# EAGLE library part IR2132SPBF (library International_Rectifier_By_element14_Batch_1)
3-PHASE BRIDGE DRIVER
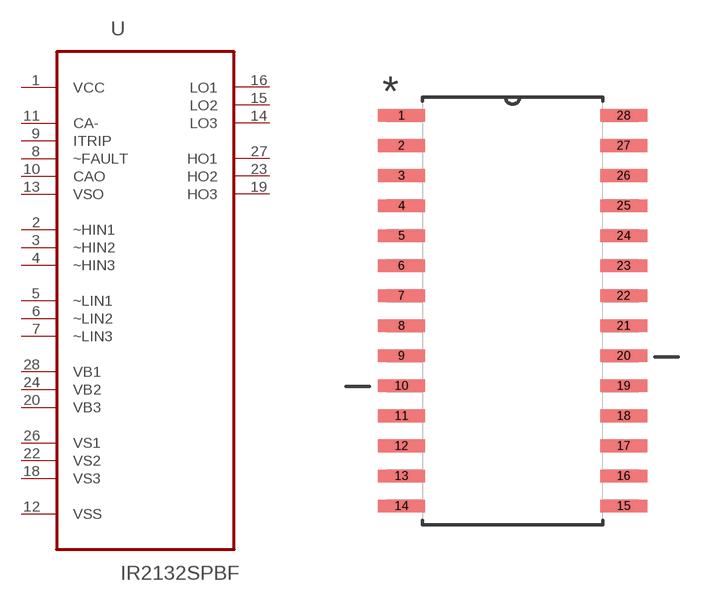
[diagram p65: symbol with the pads of SOIC127PX1032X265-28N; footprint SOIC127PX1032X265-28N]

Designator prefix U

## IR2132SPBF (MPN: IR2132SPBF; OC_FARNELL: -; OC_NEWARK: 63J7876; PACKAGE: SOIC28; SUPPLIER: INTERNATIONAL RECTIFIER)  [SOIC127PX1032X265-28N]
1  VCC  pwr
2  ~HIN1  in
3  ~HIN2  in
4  ~HIN3  in
5  ~LIN1  in
6  ~LIN2  in
7  ~LIN3  in
8  ~FAULT  in
9  ITRIP  in
10  CAO  in
11  CA-  in
12  VSS  pas
13  VSO  in
14  LO3  out
15  LO2  out
16  LO1  out
18  VS3  out
19  HO3  out
20  VB3  out
22  VS2  out
23  HO2  out
24  VB2  in
26  VS1  in
27  HO1  out
28  VB1  in

## Footprint SOIC127PX1032X265-28N (pad centres in mm)
smd 1.981 x 0.533: 1 -4.699,8.255; 2 -4.699,6.985; 3 -4.699,5.715; 4 -4.699,4.445; 5 -4.699,3.175; 6 -4.699,1.905; 7 -4.699,0.635; 8 -4.699,-0.635; 9 -4.699,-1.905; 10 -4.699,-3.175; 11 -4.699,-4.445; 12 -4.699,-5.715; 13 -4.699,-6.985; 14 -4.699,-8.255; 15 4.699,-8.255; 16 4.699,-6.985; 17 4.699,-5.715; 18 4.699,-4.445; 19 4.699,-3.175; 20 4.699,-1.905; 21 4.699,-0.635; 22 4.699,0.635; 23 4.699,1.905; 24 4.699,3.175; 25 4.699,4.445; 26 4.699,5.715; 27 4.699,6.985; 28 4.699,8.255